# Altium schematic symbol library SCH - POWER - SWITCHMODE - TI TPS53355_DQP_22.SchLib: 1 symbol
Pins are listed as number, name and electrical type; pins without a type are passive.

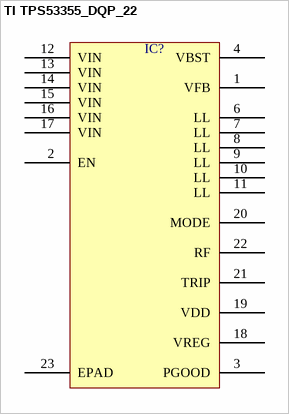
[diagram p0: symbol TI TPS53355_DQP_22]

## TI TPS53355_DQP_22
designator IC?  (value not drawn)
pins: 1 VFB, 2 EN, 3 PGOOD, 4 VBST, 6 LL, 7 LL, 8 LL, 9 LL, 10 LL, 11 LL, 12 VIN, 13 VIN, 14 VIN, 15 VIN, 16 VIN, 17 VIN, 18 VREG, 19 VDD, 20 MODE, 21 TRIP, 22 RF, 23 EPAD